# EAGLE library part TCA9554ADBQR (library pimoroni-ics)
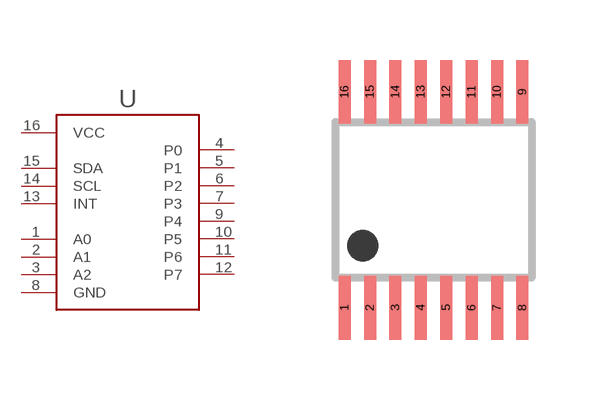
[diagram p46: symbol with the pads of SSOP16_TI_0635; footprint SSOP16_TI_0635]

Designator prefix U

## TCA9554ADBQR  [SSOP16_TI_0635]
1  A0
2  A1
3  A2
4  P0
5  P1
6  P2
7  P3
8  GND
9  P4
10  P5
11  P6
12  P7
13  INT
14  SCL
15  SDA
16  VCC

## Footprint SSOP16_TI_0635 (pad centres in mm)
Small Shrink Outline Package
smd 0.3 x 1.6: 1 -2.223,-2.7; 2 -1.587,-2.7; 3 -0.953,-2.7; 4 -0.318,-2.7; 5 0.318,-2.7; 6 0.953,-2.7; 7 1.587,-2.7; 8 2.223,-2.7; 9 2.223,2.7; 10 1.587,2.7; 11 0.953,2.7; 12 0.318,2.7; 13 -0.318,2.7; 14 -0.953,2.7; 15 -1.587,2.7; 16 -2.223,2.7